# Altium schematic symbol library SCH - DRIVER - LED - TI LM3444_DGS_10.SchLib: 1 symbol
Pins are listed as number, name and electrical type; pins without a type are passive.

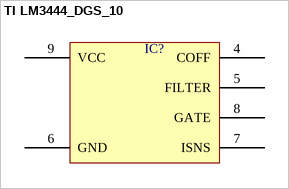
[diagram p0: symbol TI LM3444_DGS_10]

## TI LM3444_DGS_10
designator IC?  (value not drawn)
pins: 4 COFF, 5 FILTER, 6 GND, 7 ISNS, 8 GATE, 9 VCC